# Altium schematic symbol library loom-accumulator.SchLib: 21 symbols
Pins are listed as number, name and electrical type; pins without a type are passive.

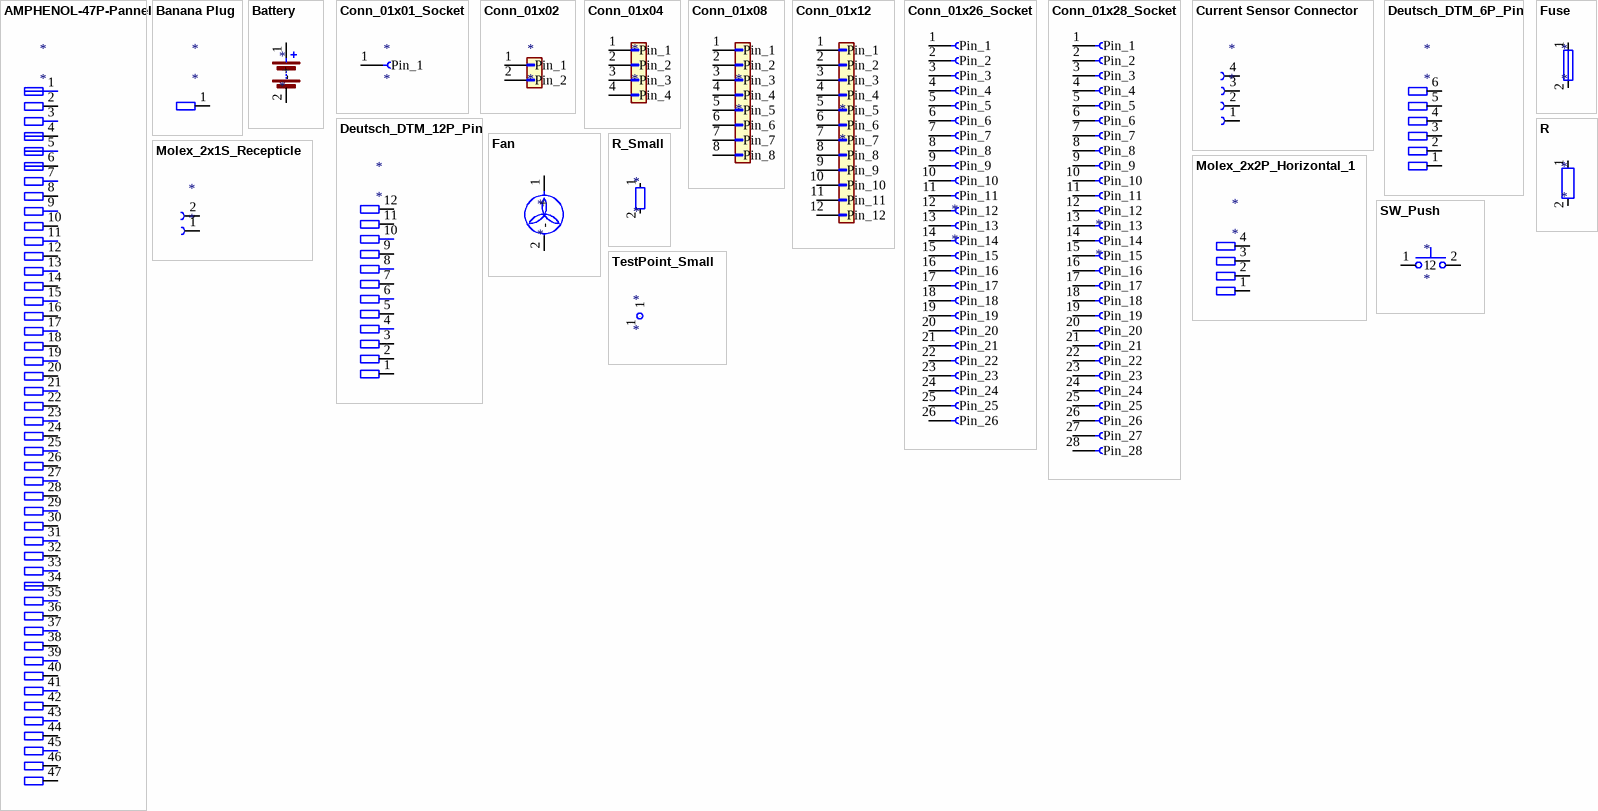
[diagram p0: symbols AMPHENOL-47P-Pannel to TestPoint_Small]

## AMPHENOL-47P-Pannel
designator *
pins: 1, 2, 3, 4, 5, 6, 7, 8, 9, 10, 11, 12, 13, 14, 15, 16, 17, 18, 19, 20, 21, 22, 23, 24, 25, 26, 27, 28, 29, 30, 31, 32, 33, 34, 35, 36, 37, 38, 39, 40, 41, 42, 43, 44, 45, 46, 47

## Banana Plug
designator *
pins: 1

## Battery
designator *
pins: 1 +, 2 -

## Conn_01x01_Socket
designator *
pins: 1 Pin_1

## Conn_01x02
designator *
pins: 1 Pin_1, 2 Pin_2

## Conn_01x04
designator *
pins: 1 Pin_1, 2 Pin_2, 3 Pin_3, 4 Pin_4

## Conn_01x08
designator *
pins: 1 Pin_1, 2 Pin_2, 3 Pin_3, 4 Pin_4, 5 Pin_5, 6 Pin_6, 7 Pin_7, 8 Pin_8

## Conn_01x12
designator *
pins: 1 Pin_1, 2 Pin_2, 3 Pin_3, 4 Pin_4, 5 Pin_5, 6 Pin_6, 7 Pin_7, 8 Pin_8, 9 Pin_9, 10 Pin_10, 11 Pin_11, 12 Pin_12

## Conn_01x26_Socket
designator *
pins: 1 Pin_1, 2 Pin_2, 3 Pin_3, 4 Pin_4, 5 Pin_5, 6 Pin_6, 7 Pin_7, 8 Pin_8, 9 Pin_9, 10 Pin_10, 11 Pin_11, 12 Pin_12, 13 Pin_13, 14 Pin_14, 15 Pin_15, 16 Pin_16, 17 Pin_17, 18 Pin_18, 19 Pin_19, 20 Pin_20, 21 Pin_21, 22 Pin_22, 23 Pin_23, 24 Pin_24, 25 Pin_25, 26 Pin_26

## Conn_01x28_Socket
designator *
pins: 1 Pin_1, 2 Pin_2, 3 Pin_3, 4 Pin_4, 5 Pin_5, 6 Pin_6, 7 Pin_7, 8 Pin_8, 9 Pin_9, 10 Pin_10, 11 Pin_11, 12 Pin_12, 13 Pin_13, 14 Pin_14, 15 Pin_15, 16 Pin_16, 17 Pin_17, 18 Pin_18, 19 Pin_19, 20 Pin_20, 21 Pin_21, 22 Pin_22, 23 Pin_23, 24 Pin_24, 25 Pin_25, 26 Pin_26, 27 Pin_27, 28 Pin_28

## Current Sensor Connector
designator *
pins: 1, 2, 3, 4

## Deutsch_DTM_6P_Pin
designator *
pins: 1, 2, 3, 4, 5, 6

## Deutsch_DTM_12P_Pin
designator *
pins: 1, 2, 3, 4, 5, 6, 7, 8, 9, 10, 11, 12

## Fan
designator *
pins: 1 +, 2 -

## Fuse
designator *
pins: 1, 2

## Molex_2x1S_Recepticle
designator *
pins: 1, 2

## Molex_2x2P_Horizontal_1
designator *
pins: 1, 2, 3, 4

## R
designator *
pins: 1, 2

## R_Small
designator *
pins: 1, 2

## SW_Push
designator *
pins: 1, 2

## TestPoint_Small
designator *
pins: 1